# Altium schematic symbol library NCP161ASN330T1G.SchLib: 1 symbol
Pins are listed as number, name and electrical type; pins without a type are passive.

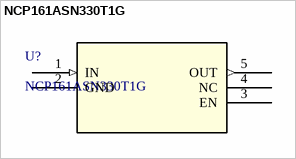
[diagram p0: symbol NCP161ASN330T1G]

## NCP161ASN330T1G
designator U?
Description; Manufacturer_Name: onsemi; Copyright: Copyright (C) 2026 Ultra Librarian. All rights reserved.; Manufacturer_Part_Number: NCP161ASN330T1G; RefDes: RefDes; Type: Type
footprint SOT23_527AH_ONS
pins: 1 IN (in), 2 GND (power), 3 EN, 4 NC, 5 OUT (out)